# Altium integrated library Linear Technology Power Management LDO Linear Regulators.IntLib: 2339 symbols (part 23 of 131)
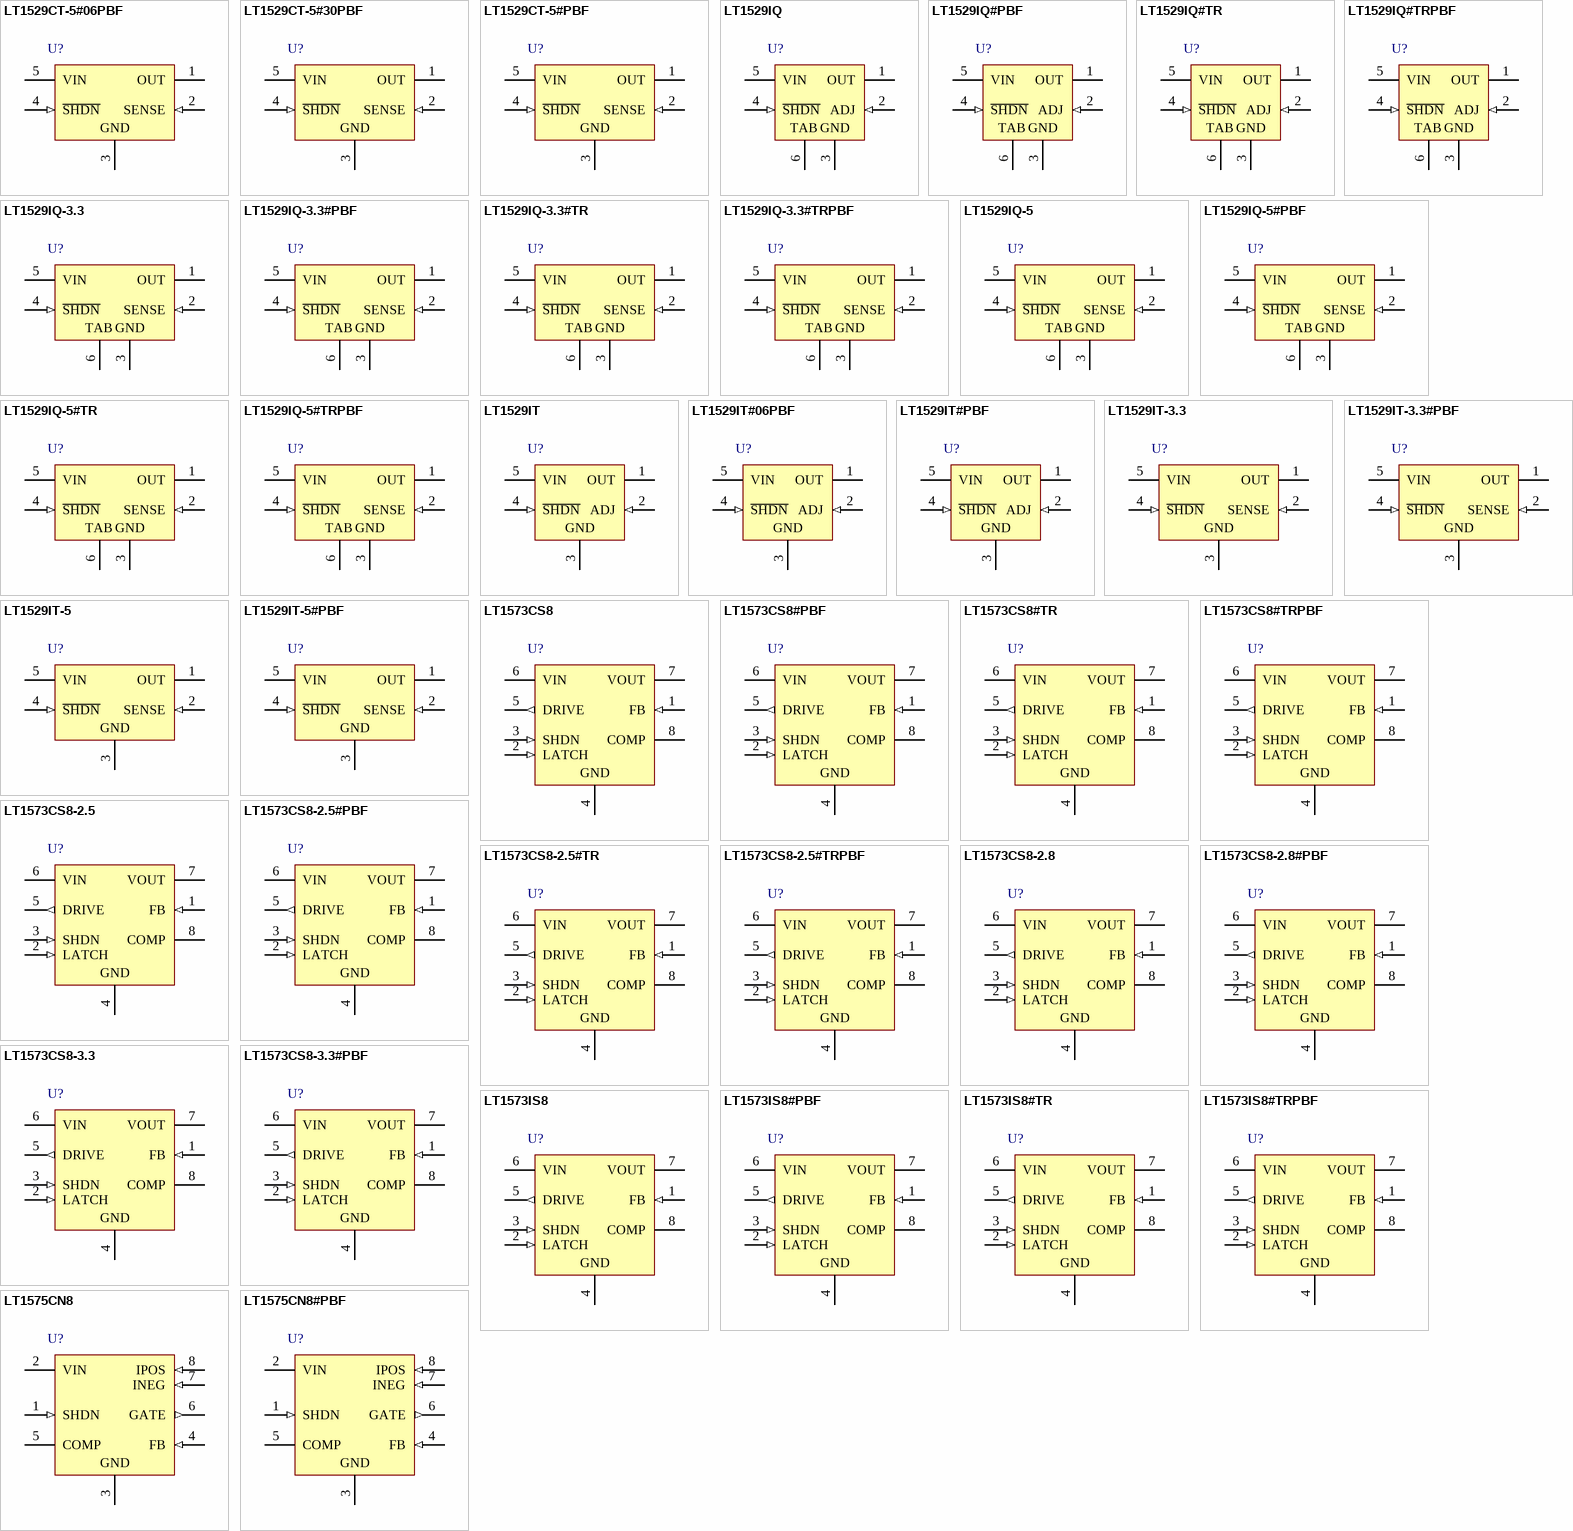
[diagram p91: symbols LT1529CT-5#06PBF to LT1575CN8#PBF]

## LT1529IQ#PBF
designator U?
3 A Low Dropout Regulator with Micropower Quiescent Current and Shutdown, 3.8 to 15 V Vin, Adjustable Vout, 5-pin DPAK (Q-5), -45 to 125 degC, Pb-Free; Manufacturer: Linear Technology; PartNumber: LT1529IQ#PBF; Discrete Pass Element: no; Dropout Voltage(V): 0.6; Iout(mA): 3000; Isupply(mA): 0.05; Number of Outputs: 1; Output Voltage: Adj; PSRR(dB): 62; Shutdown Current(uA): 15; Vin Min(V): 3.8; Vout Max(V): 14; DatasheetVersion: Rev. B; PackageVersion: Rev. F, 09/2011; PackageReference: Q-5; PackageDescription: 5-Pin Plastic DD Pak, Body 10.2235 x 8.89 mm, Pitch 1.702 mm; Supplier 1: Digi-Key; Supplier Part Number 1: LT1529IQ#PBF-ND; Supplier 2: Farnell; Supplier Part Number 2: 2295205; Supplier 3: Newark; Supplier Part Number 3: 57M4832; RoHS: TRUE; Vin Max(V): 15; Vout Min(V): 3.8; Mounting Technology: Surface Mount; ComponentLink1Description: Manufacturer URL; ComponentLink1URL: http://www.linear.com/; ComponentLink2Description: Datasheet; ComponentLink2URL: http://cds.linear.com/docs/en/datasheet/1529fb.pdf; ComponentLink3Description: Package Specification; ComponentLink3URL: http://cds.linear.com/docs/en/packaging/Q%20DD5%2005-08-1461%20Rev%20F.pdf
footprint LT-Q-5_N (DPAK, 5-Leads, Body 10.22x8.89mm, Pitch 1.702mm, IPC Medium Density)
footprint LT-Q-5_L (DPAK, 5-Leads, Body 10.22x8.89mm, Pitch 1.702mm, IPC High Density)
footprint LT-Q-5_M (DPAK, 5-Leads, Body 10.22x8.89mm, Pitch 1.702mm, IPC Low Density)
pins: 1 OUT (power) "OUTPUT Pin. The OUTPUT pin supplies power to the load. A minimum output capacitor of 22uF is required to prevent oscillations. Larger values will be required to optimize transient response for large load current deltas. See (See Datasheet)", 2 ADJ (in) "Adjust Pin. For the LT1529 (adjustable version) the ADJ pin is the input to the error amplifier. This pin is internally clamped to 6V and - 0.6V (one VBE). This pin has a bias current of 150nA which flows into the pin. See (See Datasheet)", 3 GND (power), 4 ~{SHDN} (in) "Shutdown Pin. This pin is used to put the device into shutdown. In shutdown the output of the device is turned off. This pin is active low. The device will be shut down if the S\H\D\N\ pin is actively pulled low. The (See Datasheet)", 5 VIN (power) "Input Pin. Power is supplied to the device through the VIN pin. The VIN pin should be bypassed to ground if the device is more than six inches away from the main input filter capacitor. In general, the output impedance of a (See Datasheet)", 6 TAB (power)

## LT1529IQ#TR
designator U?
3 A Low Dropout Regulator with Micropower Quiescent Current and Shutdown, 3.8 to 15 V Vin, Adjustable Vout, 5-pin DPAK (Q-5), -45 to 125 degC, Tape and Reel; Manufacturer: Linear Technology; PartNumber: LT1529IQ#TR; Discrete Pass Element: no; Dropout Voltage(V): 0.6; Iout(mA): 3000; Isupply(mA): 0.05; Number of Outputs: 1; Output Voltage: Adj; PSRR(dB): 62; Shutdown Current(uA): 15; Vin Min(V): 3.8; Vout Max(V): 14; DatasheetVersion: Rev. B; PackageVersion: Rev. F, 09/2011; PackageReference: Q-5; PackageDescription: 5-Pin Plastic DD Pak, Body 10.2235 x 8.89 mm, Pitch 1.702 mm; Supplier 1: Digi-Key; Supplier Part Number 1: LT1529IQ#TR-ND; Supplier 2: Newark; Supplier Part Number 2: 57M4833; Packing: Tape and Reel; RoHS: FALSE; Vin Max(V): 15; Vout Min(V): 3.8; Mounting Technology: Surface Mount; ComponentLink1Description: Manufacturer URL; ComponentLink1URL: http://www.linear.com/; ComponentLink2Description: Datasheet; ComponentLink2URL: http://cds.linear.com/docs/en/datasheet/1529fb.pdf; ComponentLink3Description: Package Specification; ComponentLink3URL: http://cds.linear.com/docs/en/packaging/Q%20DD5%2005-08-1461%20Rev%20F.pdf
footprint LT-Q-5_N (DPAK, 5-Leads, Body 10.22x8.89mm, Pitch 1.702mm, IPC Medium Density)
footprint LT-Q-5_L (DPAK, 5-Leads, Body 10.22x8.89mm, Pitch 1.702mm, IPC High Density)
footprint LT-Q-5_M (DPAK, 5-Leads, Body 10.22x8.89mm, Pitch 1.702mm, IPC Low Density)
pins: 1 OUT (power) "OUTPUT Pin. The OUTPUT pin supplies power to the load. A minimum output capacitor of 22uF is required to prevent oscillations. Larger values will be required to optimize transient response for large load current deltas. See (See Datasheet)", 2 ADJ (in) "Adjust Pin. For the LT1529 (adjustable version) the ADJ pin is the input to the error amplifier. This pin is internally clamped to 6V and - 0.6V (one VBE). This pin has a bias current of 150nA which flows into the pin. See (See Datasheet)", 3 GND (power), 4 ~{SHDN} (in) "Shutdown Pin. This pin is used to put the device into shutdown. In shutdown the output of the device is turned off. This pin is active low. The device will be shut down if the S\H\D\N\ pin is actively pulled low. The (See Datasheet)", 5 VIN (power) "Input Pin. Power is supplied to the device through the VIN pin. The VIN pin should be bypassed to ground if the device is more than six inches away from the main input filter capacitor. In general, the output impedance of a (See Datasheet)", 6 TAB (power)

## LT1529IQ#TRPBF
designator U?
3 A Low Dropout Regulator with Micropower Quiescent Current and Shutdown, 3.8 to 15 V Vin, Adjustable Vout, 5-pin DPAK (Q-5), -45 to 125 degC, Pb-Free, Tape and Reel; Manufacturer: Linear Technology; PartNumber: LT1529IQ#TRPBF; Discrete Pass Element: no; Dropout Voltage(V): 0.6; Iout(mA): 3000; Isupply(mA): 0.05; Number of Outputs: 1; Output Voltage: Adj; PSRR(dB): 62; Shutdown Current(uA): 15; Vin Min(V): 3.8; Vout Max(V): 14; DatasheetVersion: Rev. B; PackageVersion: Rev. F, 09/2011; PackageReference: Q-5; PackageDescription: 5-Pin Plastic DD Pak, Body 10.2235 x 8.89 mm, Pitch 1.702 mm; Supplier 1: Digi-Key; Supplier Part Number 1: LT1529IQ#TRPBF-ND; Supplier 2: Newark; Supplier Part Number 2: 57M4834; Packing: Tape and Reel; RoHS: TRUE; Vin Max(V): 15; Vout Min(V): 3.8; Mounting Technology: Surface Mount; ComponentLink1Description: Manufacturer URL; ComponentLink1URL: http://www.linear.com/; ComponentLink2Description: Datasheet; ComponentLink2URL: http://cds.linear.com/docs/en/datasheet/1529fb.pdf; ComponentLink3Description: Package Specification; ComponentLink3URL: http://cds.linear.com/docs/en/packaging/Q%20DD5%2005-08-1461%20Rev%20F.pdf
footprint LT-Q-5_N (DPAK, 5-Leads, Body 10.22x8.89mm, Pitch 1.702mm, IPC Medium Density)
footprint LT-Q-5_L (DPAK, 5-Leads, Body 10.22x8.89mm, Pitch 1.702mm, IPC High Density)
footprint LT-Q-5_M (DPAK, 5-Leads, Body 10.22x8.89mm, Pitch 1.702mm, IPC Low Density)
pins: 1 OUT (power) "OUTPUT Pin. The OUTPUT pin supplies power to the load. A minimum output capacitor of 22uF is required to prevent oscillations. Larger values will be required to optimize transient response for large load current deltas. See (See Datasheet)", 2 ADJ (in) "Adjust Pin. For the LT1529 (adjustable version) the ADJ pin is the input to the error amplifier. This pin is internally clamped to 6V and - 0.6V (one VBE). This pin has a bias current of 150nA which flows into the pin. See (See Datasheet)", 3 GND (power), 4 ~{SHDN} (in) "Shutdown Pin. This pin is used to put the device into shutdown. In shutdown the output of the device is turned off. This pin is active low. The device will be shut down if the S\H\D\N\ pin is actively pulled low. The (See Datasheet)", 5 VIN (power) "Input Pin. Power is supplied to the device through the VIN pin. The VIN pin should be bypassed to ground if the device is more than six inches away from the main input filter capacitor. In general, the output impedance of a (See Datasheet)", 6 TAB (power)

## LT1529IQ-3.3
designator U?
3 A Low Dropout Regulator with Micropower Quiescent Current and Shutdown, 3.8 to 15 V Vin, 3.3 V Vout, 5-pin DPAK (Q-5), -45 to 125 degC; Manufacturer: Linear Technology; PartNumber: LT1529IQ-3.3; Discrete Pass Element: no; Dropout Voltage(V): 0.6; Iout(mA): 3000; Isupply(mA): 0.05; Number of Outputs: 1; Output Voltage: 3.3 V; PSRR(dB): 62; Shutdown Current(uA): 15; Vin Min(V): 3.8; DatasheetVersion: Rev. B; PackageVersion: Rev. F, 09/2011; PackageReference: Q-5; PackageDescription: 5-Pin Plastic DD Pak, Body 10.2235 x 8.89 mm, Pitch 1.702 mm; Supplier 1: Digi-Key; Supplier Part Number 1: LT1529IQ-3.3-ND; Supplier 2: Newark; Supplier Part Number 2: 57M4824; RoHS: FALSE; Vin Max(V): 15; Mounting Technology: Surface Mount; ComponentLink1Description: Manufacturer URL; ComponentLink1URL: http://www.linear.com/; ComponentLink2Description: Datasheet; ComponentLink2URL: http://cds.linear.com/docs/en/datasheet/1529fb.pdf; ComponentLink3Description: Package Specification; ComponentLink3URL: http://cds.linear.com/docs/en/packaging/Q%20DD5%2005-08-1461%20Rev%20F.pdf
footprint LT-Q-5_N (DPAK, 5-Leads, Body 10.22x8.89mm, Pitch 1.702mm, IPC Medium Density)
footprint LT-Q-5_L (DPAK, 5-Leads, Body 10.22x8.89mm, Pitch 1.702mm, IPC High Density)
footprint LT-Q-5_M (DPAK, 5-Leads, Body 10.22x8.89mm, Pitch 1.702mm, IPC Low Density)
pins: 1 OUT (power) "OUTPUT Pin.", 2 SENSE (in) "SENSE Pin.", 3 GND (power), 4 ~{SHDN} (in) "Shutdown Pin. This pin is used to put the device into shutdown. In shutdown the output of the device is turned off. This pin is active low. The device will be shut down if the S\H\D\N\ pin is actively pulled low. The (See Datasheet)", 5 VIN (power) "Input Pin. Power is supplied to the device through the VIN pin. The VIN pin should be bypassed to ground if the device is more than six inches away from the main input filter capacitor. In general, the output impedance of a (See Datasheet)", 6 TAB (power)

## LT1529IQ-3.3#PBF
designator U?
3 A Low Dropout Regulator with Micropower Quiescent Current and Shutdown, 3.8 to 15 V Vin, 3.3 V Vout, 5-pin DPAK (Q-5), -45 to 125 degC, Pb-Free; Manufacturer: Linear Technology; PartNumber: LT1529IQ-3.3#PBF; Discrete Pass Element: no; Dropout Voltage(V): 0.6; Iout(mA): 3000; Isupply(mA): 0.05; Number of Outputs: 1; Output Voltage: 3.3 V; PSRR(dB): 62; Shutdown Current(uA): 15; Vin Min(V): 3.8; DatasheetVersion: Rev. B; PackageVersion: Rev. F, 09/2011; PackageReference: Q-5; PackageDescription: 5-Pin Plastic DD Pak, Body 10.2235 x 8.89 mm, Pitch 1.702 mm; Supplier 1: Digi-Key; Supplier Part Number 1: LT1529IQ-3.3#PBF-ND; Supplier 2: Newark; Supplier Part Number 2: 57M4825; RoHS: TRUE; Vin Max(V): 15; Mounting Technology: Surface Mount; ComponentLink1Description: Manufacturer URL; ComponentLink1URL: http://www.linear.com/; ComponentLink2Description: Datasheet; ComponentLink2URL: http://cds.linear.com/docs/en/datasheet/1529fb.pdf; ComponentLink3Description: Package Specification; ComponentLink3URL: http://cds.linear.com/docs/en/packaging/Q%20DD5%2005-08-1461%20Rev%20F.pdf
footprint LT-Q-5_N (DPAK, 5-Leads, Body 10.22x8.89mm, Pitch 1.702mm, IPC Medium Density)
footprint LT-Q-5_L (DPAK, 5-Leads, Body 10.22x8.89mm, Pitch 1.702mm, IPC High Density)
footprint LT-Q-5_M (DPAK, 5-Leads, Body 10.22x8.89mm, Pitch 1.702mm, IPC Low Density)
pins: 1 OUT (power) "OUTPUT Pin.", 2 SENSE (in) "SENSE Pin.", 3 GND (power), 4 ~{SHDN} (in) "Shutdown Pin. This pin is used to put the device into shutdown. In shutdown the output of the device is turned off. This pin is active low. The device will be shut down if the S\H\D\N\ pin is actively pulled low. The (See Datasheet)", 5 VIN (power) "Input Pin. Power is supplied to the device through the VIN pin. The VIN pin should be bypassed to ground if the device is more than six inches away from the main input filter capacitor. In general, the output impedance of a (See Datasheet)", 6 TAB (power)

## LT1529IQ-3.3#TR
designator U?
3 A Low Dropout Regulator with Micropower Quiescent Current and Shutdown, 3.8 to 15 V Vin, 3.3 V Vout, 5-pin DPAK (Q-5), -45 to 125 degC, Tape and Reel; Manufacturer: Linear Technology; PartNumber: LT1529IQ-3.3#TR; Discrete Pass Element: no; Dropout Voltage(V): 0.6; Iout(mA): 3000; Isupply(mA): 0.05; Number of Outputs: 1; Output Voltage: 3.3 V; PSRR(dB): 62; Shutdown Current(uA): 15; Vin Min(V): 3.8; DatasheetVersion: Rev. B; PackageVersion: Rev. F, 09/2011; PackageReference: Q-5; PackageDescription: 5-Pin Plastic DD Pak, Body 10.2235 x 8.89 mm, Pitch 1.702 mm; Supplier 1: Digi-Key; Supplier Part Number 1: LT1529IQ-3.3#TR-ND; Supplier 2: Newark; Supplier Part Number 2: 57M4826; Packing: Tape and Reel; RoHS: FALSE; Vin Max(V): 15; Mounting Technology: Surface Mount; ComponentLink1Description: Manufacturer URL; ComponentLink1URL: http://www.linear.com/; ComponentLink2Description: Datasheet; ComponentLink2URL: http://cds.linear.com/docs/en/datasheet/1529fb.pdf; ComponentLink3Description: Package Specification; ComponentLink3URL: http://cds.linear.com/docs/en/packaging/Q%20DD5%2005-08-1461%20Rev%20F.pdf
footprint LT-Q-5_N (DPAK, 5-Leads, Body 10.22x8.89mm, Pitch 1.702mm, IPC Medium Density)
footprint LT-Q-5_L (DPAK, 5-Leads, Body 10.22x8.89mm, Pitch 1.702mm, IPC High Density)
footprint LT-Q-5_M (DPAK, 5-Leads, Body 10.22x8.89mm, Pitch 1.702mm, IPC Low Density)
pins: 1 OUT (power) "OUTPUT Pin.", 2 SENSE (in) "SENSE Pin.", 3 GND (power), 4 ~{SHDN} (in) "Shutdown Pin. This pin is used to put the device into shutdown. In shutdown the output of the device is turned off. This pin is active low. The device will be shut down if the S\H\D\N\ pin is actively pulled low. The (See Datasheet)", 5 VIN (power) "Input Pin. Power is supplied to the device through the VIN pin. The VIN pin should be bypassed to ground if the device is more than six inches away from the main input filter capacitor. In general, the output impedance of a (See Datasheet)", 6 TAB (power)

## LT1529IQ-3.3#TRPBF
designator U?
3 A Low Dropout Regulator with Micropower Quiescent Current and Shutdown, 3.8 to 15 V Vin, 3.3 V Vout, 5-pin DPAK (Q-5), -45 to 125 degC, Pb-Free, Tape and Reel; Manufacturer: Linear Technology; PartNumber: LT1529IQ-3.3#TRPBF; Discrete Pass Element: no; Dropout Voltage(V): 0.6; Iout(mA): 3000; Isupply(mA): 0.05; Number of Outputs: 1; Output Voltage: 3.3 V; PSRR(dB): 62; Shutdown Current(uA): 15; Vin Min(V): 3.8; DatasheetVersion: Rev. B; PackageVersion: Rev. F, 09/2011; PackageReference: Q-5; PackageDescription: 5-Pin Plastic DD Pak, Body 10.2235 x 8.89 mm, Pitch 1.702 mm; Supplier 1: Digi-Key; Supplier Part Number 1: LT1529IQ-3.3#TRPBF-ND; Supplier 2: Newark; Supplier Part Number 2: 57M4827; Packing: Tape and Reel; RoHS: TRUE; Vin Max(V): 15; Mounting Technology: Surface Mount; ComponentLink1Description: Manufacturer URL; ComponentLink1URL: http://www.linear.com/; ComponentLink2Description: Datasheet; ComponentLink2URL: http://cds.linear.com/docs/en/datasheet/1529fb.pdf; ComponentLink3Description: Package Specification; ComponentLink3URL: http://cds.linear.com/docs/en/packaging/Q%20DD5%2005-08-1461%20Rev%20F.pdf
footprint LT-Q-5_N (DPAK, 5-Leads, Body 10.22x8.89mm, Pitch 1.702mm, IPC Medium Density)
footprint LT-Q-5_L (DPAK, 5-Leads, Body 10.22x8.89mm, Pitch 1.702mm, IPC High Density)
footprint LT-Q-5_M (DPAK, 5-Leads, Body 10.22x8.89mm, Pitch 1.702mm, IPC Low Density)
pins: 1 OUT (power) "OUTPUT Pin.", 2 SENSE (in) "SENSE Pin.", 3 GND (power), 4 ~{SHDN} (in) "Shutdown Pin. This pin is used to put the device into shutdown. In shutdown the output of the device is turned off. This pin is active low. The device will be shut down if the S\H\D\N\ pin is actively pulled low. The (See Datasheet)", 5 VIN (power) "Input Pin. Power is supplied to the device through the VIN pin. The VIN pin should be bypassed to ground if the device is more than six inches away from the main input filter capacitor. In general, the output impedance of a (See Datasheet)", 6 TAB (power)

## LT1529IQ-5
designator U?
3 A Low Dropout Regulator with Micropower Quiescent Current and Shutdown, 3.8 to 15 V Vin, 5 V Vout, 5-pin DPAK (Q-5), -45 to 125 degC; Manufacturer: Linear Technology; PartNumber: LT1529IQ-5; Discrete Pass Element: no; Dropout Voltage(V): 0.6; Iout(mA): 3000; Isupply(mA): 0.05; Number of Outputs: 1; Output Voltage: 5 V; PSRR(dB): 62; Shutdown Current(uA): 15; Vin Min(V): 3.8; DatasheetVersion: Rev. B; PackageVersion: Rev. F, 09/2011; PackageReference: Q-5; PackageDescription: 5-Pin Plastic DD Pak, Body 10.2235 x 8.89 mm, Pitch 1.702 mm; Supplier 1: Digi-Key; Supplier Part Number 1: LT1529IQ-5-ND; Supplier 2: Newark; Supplier Part Number 2: 57M4828; RoHS: FALSE; Vin Max(V): 15; Mounting Technology: Surface Mount; ComponentLink1Description: Manufacturer URL; ComponentLink1URL: http://www.linear.com/; ComponentLink2Description: Datasheet; ComponentLink2URL: http://cds.linear.com/docs/en/datasheet/1529fb.pdf; ComponentLink3Description: Package Specification; ComponentLink3URL: http://cds.linear.com/docs/en/packaging/Q%20DD5%2005-08-1461%20Rev%20F.pdf
footprint LT-Q-5_N (DPAK, 5-Leads, Body 10.22x8.89mm, Pitch 1.702mm, IPC Medium Density)
footprint LT-Q-5_L (DPAK, 5-Leads, Body 10.22x8.89mm, Pitch 1.702mm, IPC High Density)
footprint LT-Q-5_M (DPAK, 5-Leads, Body 10.22x8.89mm, Pitch 1.702mm, IPC Low Density)
pins: 1 OUT (power) "OUTPUT Pin.", 2 SENSE (in) "SENSE Pin.", 3 GND (power), 4 ~{SHDN} (in) "Shutdown Pin. This pin is used to put the device into shutdown. In shutdown the output of the device is turned off. This pin is active low. The device will be shut down if the S\H\D\N\ pin is actively pulled low. The (See Datasheet)", 5 VIN (power) "Input Pin. Power is supplied to the device through the VIN pin. The VIN pin should be bypassed to ground if the device is more than six inches away from the main input filter capacitor. In general, the output impedance of a (See Datasheet)", 6 TAB (power)

## LT1529IQ-5#PBF
designator U?
3 A Low Dropout Regulator with Micropower Quiescent Current and Shutdown, 3.8 to 15 V Vin, 5 V Vout, 5-pin DPAK (Q-5), -45 to 125 degC, Pb-Free; Manufacturer: Linear Technology; PartNumber: LT1529IQ-5#PBF; Discrete Pass Element: no; Dropout Voltage(V): 0.6; Iout(mA): 3000; Isupply(mA): 0.05; Number of Outputs: 1; Output Voltage: 5 V; PSRR(dB): 62; Shutdown Current(uA): 15; Vin Min(V): 3.8; DatasheetVersion: Rev. B; PackageVersion: Rev. F, 09/2011; PackageReference: Q-5; PackageDescription: 5-Pin Plastic DD Pak, Body 10.2235 x 8.89 mm, Pitch 1.702 mm; Supplier 1: Digi-Key; Supplier Part Number 1: LT1529IQ-5#PBF-ND; Supplier 2: Farnell; Supplier Part Number 2: 2252780; Supplier 3: Newark; Supplier Part Number 3: 57M4829; RoHS: TRUE; Vin Max(V): 15; Mounting Technology: Surface Mount; ComponentLink1Description: Manufacturer URL; ComponentLink1URL: http://www.linear.com/; ComponentLink2Description: Datasheet; ComponentLink2URL: http://cds.linear.com/docs/en/datasheet/1529fb.pdf; ComponentLink3Description: Package Specification; ComponentLink3URL: http://cds.linear.com/docs/en/packaging/Q%20DD5%2005-08-1461%20Rev%20F.pdf
footprint LT-Q-5_N (DPAK, 5-Leads, Body 10.22x8.89mm, Pitch 1.702mm, IPC Medium Density)
footprint LT-Q-5_L (DPAK, 5-Leads, Body 10.22x8.89mm, Pitch 1.702mm, IPC High Density)
footprint LT-Q-5_M (DPAK, 5-Leads, Body 10.22x8.89mm, Pitch 1.702mm, IPC Low Density)
pins: 1 OUT (power) "OUTPUT Pin.", 2 SENSE (in) "SENSE Pin.", 3 GND (power), 4 ~{SHDN} (in) "Shutdown Pin. This pin is used to put the device into shutdown. In shutdown the output of the device is turned off. This pin is active low. The device will be shut down if the S\H\D\N\ pin is actively pulled low. The (See Datasheet)", 5 VIN (power) "Input Pin. Power is supplied to the device through the VIN pin. The VIN pin should be bypassed to ground if the device is more than six inches away from the main input filter capacitor. In general, the output impedance of a (See Datasheet)", 6 TAB (power)

## LT1529IQ-5#TR
designator U?
3 A Low Dropout Regulator with Micropower Quiescent Current and Shutdown, 3.8 to 15 V Vin, 5 V Vout, 5-pin DPAK (Q-5), -45 to 125 degC, Tape and Reel; Manufacturer: Linear Technology; PartNumber: LT1529IQ-5#TR; Discrete Pass Element: no; Dropout Voltage(V): 0.6; Iout(mA): 3000; Isupply(mA): 0.05; Number of Outputs: 1; Output Voltage: 5 V; PSRR(dB): 62; Shutdown Current(uA): 15; Vin Min(V): 3.8; DatasheetVersion: Rev. B; PackageVersion: Rev. F, 09/2011; PackageReference: Q-5; PackageDescription: 5-Pin Plastic DD Pak, Body 10.2235 x 8.89 mm, Pitch 1.702 mm; Supplier 1: Digi-Key; Supplier Part Number 1: LT1529IQ-5#TR-ND; Packing: Tape and Reel; RoHS: FALSE; Vin Max(V): 15; Mounting Technology: Surface Mount; ComponentLink1Description: Manufacturer URL; ComponentLink1URL: http://www.linear.com/; ComponentLink2Description: Datasheet; ComponentLink2URL: http://cds.linear.com/docs/en/datasheet/1529fb.pdf; ComponentLink3Description: Package Specification; ComponentLink3URL: http://cds.linear.com/docs/en/packaging/Q%20DD5%2005-08-1461%20Rev%20F.pdf
footprint LT-Q-5_N (DPAK, 5-Leads, Body 10.22x8.89mm, Pitch 1.702mm, IPC Medium Density)
footprint LT-Q-5_L (DPAK, 5-Leads, Body 10.22x8.89mm, Pitch 1.702mm, IPC High Density)
footprint LT-Q-5_M (DPAK, 5-Leads, Body 10.22x8.89mm, Pitch 1.702mm, IPC Low Density)
pins: 1 OUT (power) "OUTPUT Pin.", 2 SENSE (in) "SENSE Pin.", 3 GND (power), 4 ~{SHDN} (in) "Shutdown Pin. This pin is used to put the device into shutdown. In shutdown the output of the device is turned off. This pin is active low. The device will be shut down if the S\H\D\N\ pin is actively pulled low. The (See Datasheet)", 5 VIN (power) "Input Pin. Power is supplied to the device through the VIN pin. The VIN pin should be bypassed to ground if the device is more than six inches away from the main input filter capacitor. In general, the output impedance of a (See Datasheet)", 6 TAB (power)

## LT1529IQ-5#TRPBF
designator U?
3 A Low Dropout Regulator with Micropower Quiescent Current and Shutdown, 3.8 to 15 V Vin, 5 V Vout, 5-pin DPAK (Q-5), -45 to 125 degC, Pb-Free, Tape and Reel; Manufacturer: Linear Technology; PartNumber: LT1529IQ-5#TRPBF; Discrete Pass Element: no; Dropout Voltage(V): 0.6; Iout(mA): 3000; Isupply(mA): 0.05; Number of Outputs: 1; Output Voltage: 5 V; PSRR(dB): 62; Shutdown Current(uA): 15; Vin Min(V): 3.8; DatasheetVersion: Rev. B; PackageVersion: Rev. F, 09/2011; PackageReference: Q-5; PackageDescription: 5-Pin Plastic DD Pak, Body 10.2235 x 8.89 mm, Pitch 1.702 mm; Supplier 1: Digi-Key; Supplier Part Number 1: LT1529IQ-5#TRPBF-ND; Supplier 2: Newark; Supplier Part Number 2: 57M4831; Packing: Tape and Reel; RoHS: TRUE; Vin Max(V): 15; Mounting Technology: Surface Mount; ComponentLink1Description: Manufacturer URL; ComponentLink1URL: http://www.linear.com/; ComponentLink2Description: Datasheet; ComponentLink2URL: http://cds.linear.com/docs/en/datasheet/1529fb.pdf; ComponentLink3Description: Package Specification; ComponentLink3URL: http://cds.linear.com/docs/en/packaging/Q%20DD5%2005-08-1461%20Rev%20F.pdf
footprint LT-Q-5_N (DPAK, 5-Leads, Body 10.22x8.89mm, Pitch 1.702mm, IPC Medium Density)
footprint LT-Q-5_L (DPAK, 5-Leads, Body 10.22x8.89mm, Pitch 1.702mm, IPC High Density)
footprint LT-Q-5_M (DPAK, 5-Leads, Body 10.22x8.89mm, Pitch 1.702mm, IPC Low Density)
pins: 1 OUT (power) "OUTPUT Pin.", 2 SENSE (in) "SENSE Pin.", 3 GND (power), 4 ~{SHDN} (in) "Shutdown Pin. This pin is used to put the device into shutdown. In shutdown the output of the device is turned off. This pin is active low. The device will be shut down if the S\H\D\N\ pin is actively pulled low. The (See Datasheet)", 5 VIN (power) "Input Pin. Power is supplied to the device through the VIN pin. The VIN pin should be bypassed to ground if the device is more than six inches away from the main input filter capacitor. In general, the output impedance of a (See Datasheet)", 6 TAB (power)

## LT1529IT
designator U?
3 A Low Dropout Regulator with Micropower Quiescent Current and Shutdown, 3.8 to 15 V Vin, Adjustable Vout, 5-pin FM (T-5), -45 to 125 degC; Manufacturer: Linear Technology; PartNumber: LT1529IT; Discrete Pass Element: no; Dropout Voltage(V): 0.6; Iout(mA): 3000; Isupply(mA): 0.05; Number of Outputs: 1; Output Voltage: Adj; PSRR(dB): 62; Shutdown Current(uA): 15; Vin Min(V): 3.8; Vout Max(V): 14; DatasheetVersion: Rev. B; PackageVersion: Aug-10; PackageReference: T-5; PackageDescription: 5-Pin Plastic TO-220 (Standard), Body 10.224 x 8.89 mm, Pitch 1.7 mm; Supplier 1: Digi-Key; Supplier Part Number 1: LT1529IT-ND; RoHS: FALSE; Vin Max(V): 15; Vout Min(V): 3.8; Mounting Technology: Through Hole; ComponentLink1Description: Manufacturer URL; ComponentLink1URL: http://www.linear.com/; ComponentLink2Description: Datasheet; ComponentLink2URL: http://cds.linear.com/docs/en/datasheet/1529fb.pdf; ComponentLink3Description: Package Specification; ComponentLink3URL: http://cds.linear.com/docs/en/packaging/TO-220_5_05-08-1421.pdf
footprint LT-T-5-S (FM, 5-Leads, Body 10.2235x4.3815mm, Pitch 1.7mm)
pins: 1 OUT (power), 2 ADJ (in), 3 GND (power), 4 ~{SHDN} (in), 5 VIN (power)

## LT1529IT#06PBF
designator U?
3 A Low Dropout Regulator with Micropower Quiescent Current and Shutdown, 3.8 to 15 V Vin, Adjustable Vout, 5-pin FM (T-5), -45 to 125 degC, Pb-Free; Manufacturer: Linear Technology; PartNumber: LT1529IT#06PBF; Discrete Pass Element: no; Dropout Voltage(V): 0.6; Iout(mA): 3000; Isupply(mA): 0.05; Number of Outputs: 1; Output Voltage: Adj; PSRR(dB): 62; Shutdown Current(uA): 15; Vin Min(V): 3.8; Vout Max(V): 14; DatasheetVersion: Rev. B; PackageVersion: Aug-10; PackageReference: T-5; PackageDescription: 5-Pin Plastic TO-220 (Standard), Body 10.224 x 8.89 mm, Pitch 1.7 mm; Supplier 1: Digi-Key; Supplier Part Number 1: LT1529IT#06PBF-ND; Supplier 2: Newark; Supplier Part Number 2: 27W9522; RoHS: TRUE; Vin Max(V): 15; Vout Min(V): 3.8; Mounting Technology: Through Hole; ComponentLink1Description: Manufacturer URL; ComponentLink1URL: http://www.linear.com/; ComponentLink2Description: Datasheet; ComponentLink2URL: http://cds.linear.com/docs/en/datasheet/1529fb.pdf; ComponentLink3Description: Package Specification; ComponentLink3URL: http://cds.linear.com/docs/en/packaging/TO-220_5_05-08-1421.pdf
footprint LT-T-5-S (FM, 5-Leads, Body 10.2235x4.3815mm, Pitch 1.7mm)
pins: 1 OUT (power), 2 ADJ (in), 3 GND (power), 4 ~{SHDN} (in), 5 VIN (power)

## LT1529IT#PBF
designator U?
3 A Low Dropout Regulator with Micropower Quiescent Current and Shutdown, 3.8 to 15 V Vin, Adjustable Vout, 5-pin FM (T-5), -45 to 125 degC, Pb-Free; Manufacturer: Linear Technology; PartNumber: LT1529IT#PBF; Discrete Pass Element: no; Dropout Voltage(V): 0.6; Iout(mA): 3000; Isupply(mA): 0.05; Number of Outputs: 1; Output Voltage: Adj; PSRR(dB): 62; Shutdown Current(uA): 15; Vin Min(V): 3.8; Vout Max(V): 14; DatasheetVersion: Rev. B; PackageVersion: Aug-10; PackageReference: T-5; PackageDescription: 5-Pin Plastic TO-220 (Standard), Body 10.224 x 8.89 mm, Pitch 1.7 mm; Supplier 1: Digi-Key; Supplier Part Number 1: LT1529IT#PBF-ND; RoHS: TRUE; Vin Max(V): 15; Vout Min(V): 3.8; Mounting Technology: Through Hole; ComponentLink1Description: Manufacturer URL; ComponentLink1URL: http://www.linear.com/; ComponentLink2Description: Datasheet; ComponentLink2URL: http://cds.linear.com/docs/en/datasheet/1529fb.pdf; ComponentLink3Description: Package Specification; ComponentLink3URL: http://cds.linear.com/docs/en/packaging/TO-220_5_05-08-1421.pdf
footprint LT-T-5-S (FM, 5-Leads, Body 10.2235x4.3815mm, Pitch 1.7mm)
pins: 1 OUT (power), 2 ADJ (in), 3 GND (power), 4 ~{SHDN} (in), 5 VIN (power)

## LT1529IT-3.3
designator U?
3 A Low Dropout Regulator with Micropower Quiescent Current and Shutdown, 3.8 to 15 V Vin, 3.3 V Vout, 5-pin FM (T-5), -45 to 125 degC; Manufacturer: Linear Technology; PartNumber: LT1529IT-3.3; Discrete Pass Element: no; Dropout Voltage(V): 0.6; Iout(mA): 3000; Isupply(mA): 0.05; Number of Outputs: 1; Output Voltage: 3.3 V; PSRR(dB): 62; Shutdown Current(uA): 15; Vin Min(V): 3.8; DatasheetVersion: Rev. B; PackageVersion: Aug-10; PackageReference: T-5; PackageDescription: 5-Pin Plastic TO-220 (Standard), Body 10.224 x 8.89 mm, Pitch 1.7 mm; Supplier 1: Digi-Key; Supplier Part Number 1: LT1529IT-3.3-ND; RoHS: FALSE; Vin Max(V): 15; Mounting Technology: Through Hole; ComponentLink1Description: Manufacturer URL; ComponentLink1URL: http://www.linear.com/; ComponentLink2Description: Datasheet; ComponentLink2URL: http://cds.linear.com/docs/en/datasheet/1529fb.pdf; ComponentLink3Description: Package Specification; ComponentLink3URL: http://cds.linear.com/docs/en/packaging/TO-220_5_05-08-1421.pdf
footprint LT-T-5-S (FM, 5-Leads, Body 10.2235x4.3815mm, Pitch 1.7mm)
pins: 1 OUT (power) "OUTPUT Pin.", 2 SENSE (in), 3 GND (power), 4 ~{SHDN} (in) "Shutdown Pin.", 5 VIN (power) "Input Pin."

## LT1529IT-3.3#PBF
designator U?
3 A Low Dropout Regulator with Micropower Quiescent Current and Shutdown, 3.8 to 15 V Vin, 3.3 V Vout, 5-pin FM (T-5), -45 to 125 degC, Pb-Free; Manufacturer: Linear Technology; PartNumber: LT1529IT-3.3#PBF; Discrete Pass Element: no; Dropout Voltage(V): 0.6; Iout(mA): 3000; Isupply(mA): 0.05; Number of Outputs: 1; Output Voltage: 3.3 V; PSRR(dB): 62; Shutdown Current(uA): 15; Vin Min(V): 3.8; DatasheetVersion: Rev. B; PackageVersion: Aug-10; PackageReference: T-5; PackageDescription: 5-Pin Plastic TO-220 (Standard), Body 10.224 x 8.89 mm, Pitch 1.7 mm; Supplier 1: Digi-Key; Supplier Part Number 1: LT1529IT-3.3#PBF-ND; Supplier 2: Newark; Supplier Part Number 2: 57M4837; RoHS: TRUE; Vin Max(V): 15; Mounting Technology: Through Hole; ComponentLink1Description: Manufacturer URL; ComponentLink1URL: http://www.linear.com/; ComponentLink2Description: Datasheet; ComponentLink2URL: http://cds.linear.com/docs/en/datasheet/1529fb.pdf; ComponentLink3Description: Package Specification; ComponentLink3URL: http://cds.linear.com/docs/en/packaging/TO-220_5_05-08-1421.pdf
footprint LT-T-5-S (FM, 5-Leads, Body 10.2235x4.3815mm, Pitch 1.7mm)
pins: 1 OUT (power) "OUTPUT Pin.", 2 SENSE (in), 3 GND (power), 4 ~{SHDN} (in) "Shutdown Pin.", 5 VIN (power) "Input Pin."

## LT1529IT-5
designator U?
3 A Low Dropout Regulator with Micropower Quiescent Current and Shutdown, 3.8 to 15 V Vin, 5 V Vout, 5-pin FM (T-5), -45 to 125 degC; Manufacturer: Linear Technology; PartNumber: LT1529IT-5; Discrete Pass Element: no; Dropout Voltage(V): 0.6; Iout(mA): 3000; Isupply(mA): 0.05; Number of Outputs: 1; Output Voltage: 5 V; PSRR(dB): 62; Shutdown Current(uA): 15; Vin Min(V): 3.8; DatasheetVersion: Rev. B; PackageVersion: Aug-10; PackageReference: T-5; PackageDescription: 5-Pin Plastic TO-220 (Standard), Body 10.224 x 8.89 mm, Pitch 1.7 mm; Supplier 1: Digi-Key; Supplier Part Number 1: LT1529IT-5-ND; RoHS: FALSE; Vin Max(V): 15; Mounting Technology: Through Hole; ComponentLink1Description: Manufacturer URL; ComponentLink1URL: http://www.linear.com/; ComponentLink2Description: Datasheet; ComponentLink2URL: http://cds.linear.com/docs/en/datasheet/1529fb.pdf; ComponentLink3Description: Package Specification; ComponentLink3URL: http://cds.linear.com/docs/en/packaging/TO-220_5_05-08-1421.pdf
footprint LT-T-5-S (FM, 5-Leads, Body 10.2235x4.3815mm, Pitch 1.7mm)
pins: 1 OUT (power) "OUTPUT Pin.", 2 SENSE (in), 3 GND (power), 4 ~{SHDN} (in) "Shutdown Pin.", 5 VIN (power) "Input Pin."

## LT1529IT-5#PBF
designator U?
3 A Low Dropout Regulator with Micropower Quiescent Current and Shutdown, 3.8 to 15 V Vin, 5 V Vout, 5-pin FM (T-5), -45 to 125 degC, Pb-Free; Manufacturer: Linear Technology; PartNumber: LT1529IT-5#PBF; Discrete Pass Element: no; Dropout Voltage(V): 0.6; Iout(mA): 3000; Isupply(mA): 0.05; Number of Outputs: 1; Output Voltage: 5 V; PSRR(dB): 62; Shutdown Current(uA): 15; Vin Min(V): 3.8; DatasheetVersion: Rev. B; PackageVersion: Aug-10; PackageReference: T-5; PackageDescription: 5-Pin Plastic TO-220 (Standard), Body 10.224 x 8.89 mm, Pitch 1.7 mm; Supplier 1: Digi-Key; Supplier Part Number 1: LT1529IT-5#PBF-ND; RoHS: TRUE; Vin Max(V): 15; Mounting Technology: Through Hole; ComponentLink1Description: Manufacturer URL; ComponentLink1URL: http://www.linear.com/; ComponentLink2Description: Datasheet; ComponentLink2URL: http://cds.linear.com/docs/en/datasheet/1529fb.pdf; ComponentLink3Description: Package Specification; ComponentLink3URL: http://cds.linear.com/docs/en/packaging/TO-220_5_05-08-1421.pdf
footprint LT-T-5-S (FM, 5-Leads, Body 10.2235x4.3815mm, Pitch 1.7mm)
pins: 1 OUT (power) "OUTPUT Pin.", 2 SENSE (in), 3 GND (power), 4 ~{SHDN} (in) "Shutdown Pin.", 5 VIN (power) "Input Pin."

## LT1573CS8
designator U?
Fast Transient Response, Requires External Transistor, 2.8 to 10 V Vin, 1.27 to 6.8 V Vout, 8-pin SOIC (S8-8), 0 to 125 degC; Manufacturer: Linear Technology; PartNumber: LT1573CS8; Discrete Pass Element: yes; Iout(mA): 5000; Isupply(mA): 1.7; Number of Outputs: 1; Output Voltage: Adj; Shutdown Current(uA): 200; Vin Max(V): 10; Vin Min(V): 2.8; Vout Max(V): 6.8; Vout Min(V): 1.27; DatasheetVersion: Rev. A; PackageVersion: Rev. G, 03/2012; PackageReference: S8-8; PackageDescription: 8-Pin Plastic Small Outline (Narrow .150 Inch), Body 4.9 x 3.9 mm, Pitch 1.27 mm; Supplier 1: Digi-Key; Supplier Part Number 1: LT1573CS8-ND; RoHS: FALSE; Mounting Technology: Surface Mount; ComponentLink1Description: Manufacturer URL; ComponentLink1URL: http://www.linear.com/; ComponentLink2Description: Datasheet; ComponentLink2URL: http://cds.linear.com/docs/en/datasheet/1573fa.pdf; ComponentLink3Description: Package Specification; ComponentLink3URL: http://cds.linear.com/docs/en/packaging/05081610_G_SO8.pdf
footprint LT-S8-8_N (SOIC, 8-Leads, Body 4.9x3.9mm, Pitch 1.27mm, IPC Medium Density)
footprint LT-S8-8_L (SOIC, 8-Leads, Body 4.9x3.9mm, Pitch 1.27mm, IPC High Density)
footprint LT-S8-8_M (SOIC, 8-Leads, Body 4.9x3.9mm, Pitch 1.27mm, IPC Low Density)
pins: 1 FB (in) "The feedback pin is the inverting input of the error amplifier. The noninverting input of the error amplifier is internally connected to a 1.265V reference. The error amplifier will servo the drive to the output transistor, (See Datasheet)", 2 LATCH (in) "The LT1573 provides overcurrent protection with a timed latch-off circuit. The latch-off time out is triggered when the DRIVE pin is pulled below the saturation voltage of the drive transistor. The saturation voltage is a (See Datasheet)", 3 SHDN (in) "The SHDN pin has two functions. It can be used to turn off the output voltage by disabling the drive to the output transistor. It can also be used to reset the current limit latch. The shutdown/reset functions are activated (See Datasheet)", 4 GND (power) "Circuit Ground.", 5 DRIVE (out) "The DRIVE pin is connected to the collector of the main drive transistor of the LT1573. This drive transistor sinks the base current of the external PNP output transistor. A resistor is normally inserted between the base of (See Datasheet)", 6 VIN (power) "This pin provides power to all internal circuitry of the LT1573 including bias, start-up, thermal limit, error amplifier and all overcurrent latch circuitry.", 7 VOUT (power) "The VOUT pin is the input to comparator C1 shown in Block Diagram. This pin is normally connected to the output. The comparator C1 is used to disable the overcurrent latch during start-up when the output transistor is (See Datasheet)", 8 COMP "A compensation network is inserted between the VOUT and COMP pins to obtain optimal transient response. Under normal condition, the DC voltage of the COMP pin sits at one VBE above ground."

## LT1573CS8#PBF
designator U?
Fast Transient Response, Requires External Transistor, 2.8 to 10 V Vin, 1.27 to 6.8 V Vout, 8-pin SOIC (S8-8), 0 to 125 degC, Pb-Free; Manufacturer: Linear Technology; PartNumber: LT1573CS8#PBF; Discrete Pass Element: yes; Iout(mA): 5000; Isupply(mA): 1.7; Number of Outputs: 1; Output Voltage: Adj; Shutdown Current(uA): 200; Vin Max(V): 10; Vin Min(V): 2.8; Vout Max(V): 6.8; Vout Min(V): 1.27; DatasheetVersion: Rev. A; PackageVersion: Rev. G, 03/2012; PackageReference: S8-8; PackageDescription: 8-Pin Plastic Small Outline (Narrow .150 Inch), Body 4.9 x 3.9 mm, Pitch 1.27 mm; Supplier 1: Digi-Key; Supplier Part Number 1: LT1573CS8#PBF-ND; Supplier 2: Newark; Supplier Part Number 2: 57M4902; RoHS: TRUE; Mounting Technology: Surface Mount; ComponentLink1Description: Manufacturer URL; ComponentLink1URL: http://www.linear.com/; ComponentLink2Description: Datasheet; ComponentLink2URL: http://cds.linear.com/docs/en/datasheet/1573fa.pdf; ComponentLink3Description: Package Specification; ComponentLink3URL: http://cds.linear.com/docs/en/packaging/05081610_G_SO8.pdf
footprint LT-S8-8_N (SOIC, 8-Leads, Body 4.9x3.9mm, Pitch 1.27mm, IPC Medium Density)
footprint LT-S8-8_L (SOIC, 8-Leads, Body 4.9x3.9mm, Pitch 1.27mm, IPC High Density)
footprint LT-S8-8_M (SOIC, 8-Leads, Body 4.9x3.9mm, Pitch 1.27mm, IPC Low Density)
pins: 1 FB (in) "The feedback pin is the inverting input of the error amplifier. The noninverting input of the error amplifier is internally connected to a 1.265V reference. The error amplifier will servo the drive to the output transistor, (See Datasheet)", 2 LATCH (in) "The LT1573 provides overcurrent protection with a timed latch-off circuit. The latch-off time out is triggered when the DRIVE pin is pulled below the saturation voltage of the drive transistor. The saturation voltage is a (See Datasheet)", 3 SHDN (in) "The SHDN pin has two functions. It can be used to turn off the output voltage by disabling the drive to the output transistor. It can also be used to reset the current limit latch. The shutdown/reset functions are activated (See Datasheet)", 4 GND (power) "Circuit Ground.", 5 DRIVE (out) "The DRIVE pin is connected to the collector of the main drive transistor of the LT1573. This drive transistor sinks the base current of the external PNP output transistor. A resistor is normally inserted between the base of (See Datasheet)", 6 VIN (power) "This pin provides power to all internal circuitry of the LT1573 including bias, start-up, thermal limit, error amplifier and all overcurrent latch circuitry.", 7 VOUT (power) "The VOUT pin is the input to comparator C1 shown in Block Diagram. This pin is normally connected to the output. The comparator C1 is used to disable the overcurrent latch during start-up when the output transistor is (See Datasheet)", 8 COMP "A compensation network is inserted between the VOUT and COMP pins to obtain optimal transient response. Under normal condition, the DC voltage of the COMP pin sits at one VBE above ground."

## LT1573CS8#TR
designator U?
Fast Transient Response, Requires External Transistor, 2.8 to 10 V Vin, 1.27 to 6.8 V Vout, 8-pin SOIC (S8-8), 0 to 125 degC, Tape and Reel; Manufacturer: Linear Technology; PartNumber: LT1573CS8#TR; Discrete Pass Element: yes; Iout(mA): 5000; Isupply(mA): 1.7; Number of Outputs: 1; Output Voltage: Adj; Shutdown Current(uA): 200; Vin Max(V): 10; Vin Min(V): 2.8; Vout Max(V): 6.8; Vout Min(V): 1.27; DatasheetVersion: Rev. A; PackageVersion: Rev. G, 03/2012; PackageReference: S8-8; PackageDescription: 8-Pin Plastic Small Outline (Narrow .150 Inch), Body 4.9 x 3.9 mm, Pitch 1.27 mm; Supplier 1: Digi-Key; Supplier Part Number 1: LT1573CS8#TR-ND; Packing: Tape and Reel; RoHS: FALSE; Mounting Technology: Surface Mount; ComponentLink1Description: Manufacturer URL; ComponentLink1URL: http://www.linear.com/; ComponentLink2Description: Datasheet; ComponentLink2URL: http://cds.linear.com/docs/en/datasheet/1573fa.pdf; ComponentLink3Description: Package Specification; ComponentLink3URL: http://cds.linear.com/docs/en/packaging/05081610_G_SO8.pdf
footprint LT-S8-8_N (SOIC, 8-Leads, Body 4.9x3.9mm, Pitch 1.27mm, IPC Medium Density)
footprint LT-S8-8_L (SOIC, 8-Leads, Body 4.9x3.9mm, Pitch 1.27mm, IPC High Density)
footprint LT-S8-8_M (SOIC, 8-Leads, Body 4.9x3.9mm, Pitch 1.27mm, IPC Low Density)
pins: 1 FB (in) "The feedback pin is the inverting input of the error amplifier. The noninverting input of the error amplifier is internally connected to a 1.265V reference. The error amplifier will servo the drive to the output transistor, (See Datasheet)", 2 LATCH (in) "The LT1573 provides overcurrent protection with a timed latch-off circuit. The latch-off time out is triggered when the DRIVE pin is pulled below the saturation voltage of the drive transistor. The saturation voltage is a (See Datasheet)", 3 SHDN (in) "The SHDN pin has two functions. It can be used to turn off the output voltage by disabling the drive to the output transistor. It can also be used to reset the current limit latch. The shutdown/reset functions are activated (See Datasheet)", 4 GND (power) "Circuit Ground.", 5 DRIVE (out) "The DRIVE pin is connected to the collector of the main drive transistor of the LT1573. This drive transistor sinks the base current of the external PNP output transistor. A resistor is normally inserted between the base of (See Datasheet)", 6 VIN (power) "This pin provides power to all internal circuitry of the LT1573 including bias, start-up, thermal limit, error amplifier and all overcurrent latch circuitry.", 7 VOUT (power) "The VOUT pin is the input to comparator C1 shown in Block Diagram. This pin is normally connected to the output. The comparator C1 is used to disable the overcurrent latch during start-up when the output transistor is (See Datasheet)", 8 COMP "A compensation network is inserted between the VOUT and COMP pins to obtain optimal transient response. Under normal condition, the DC voltage of the COMP pin sits at one VBE above ground."

## LT1573CS8#TRPBF
designator U?
Fast Transient Response, Requires External Transistor, 2.8 to 10 V Vin, 1.27 to 6.8 V Vout, 8-pin SOIC (S8-8), 0 to 125 degC, Pb-Free, Tape and Reel; Manufacturer: Linear Technology; PartNumber: LT1573CS8#TRPBF; Discrete Pass Element: yes; Iout(mA): 5000; Isupply(mA): 1.7; Number of Outputs: 1; Output Voltage: Adj; Shutdown Current(uA): 200; Vin Max(V): 10; Vin Min(V): 2.8; Vout Max(V): 6.8; Vout Min(V): 1.27; DatasheetVersion: Rev. A; PackageVersion: Rev. G, 03/2012; PackageReference: S8-8; PackageDescription: 8-Pin Plastic Small Outline (Narrow .150 Inch), Body 4.9 x 3.9 mm, Pitch 1.27 mm; Supplier 1: Digi-Key; Supplier Part Number 1: LT1573CS8#TRPBF-ND; Supplier 2: Newark; Supplier Part Number 2: 57M4904; Packing: Tape and Reel; RoHS: TRUE; Mounting Technology: Surface Mount; ComponentLink1Description: Manufacturer URL; ComponentLink1URL: http://www.linear.com/; ComponentLink2Description: Datasheet; ComponentLink2URL: http://cds.linear.com/docs/en/datasheet/1573fa.pdf; ComponentLink3Description: Package Specification; ComponentLink3URL: http://cds.linear.com/docs/en/packaging/05081610_G_SO8.pdf
footprint LT-S8-8_N (SOIC, 8-Leads, Body 4.9x3.9mm, Pitch 1.27mm, IPC Medium Density)
footprint LT-S8-8_L (SOIC, 8-Leads, Body 4.9x3.9mm, Pitch 1.27mm, IPC High Density)
footprint LT-S8-8_M (SOIC, 8-Leads, Body 4.9x3.9mm, Pitch 1.27mm, IPC Low Density)
pins: 1 FB (in) "The feedback pin is the inverting input of the error amplifier. The noninverting input of the error amplifier is internally connected to a 1.265V reference. The error amplifier will servo the drive to the output transistor, (See Datasheet)", 2 LATCH (in) "The LT1573 provides overcurrent protection with a timed latch-off circuit. The latch-off time out is triggered when the DRIVE pin is pulled below the saturation voltage of the drive transistor. The saturation voltage is a (See Datasheet)", 3 SHDN (in) "The SHDN pin has two functions. It can be used to turn off the output voltage by disabling the drive to the output transistor. It can also be used to reset the current limit latch. The shutdown/reset functions are activated (See Datasheet)", 4 GND (power) "Circuit Ground.", 5 DRIVE (out) "The DRIVE pin is connected to the collector of the main drive transistor of the LT1573. This drive transistor sinks the base current of the external PNP output transistor. A resistor is normally inserted between the base of (See Datasheet)", 6 VIN (power) "This pin provides power to all internal circuitry of the LT1573 including bias, start-up, thermal limit, error amplifier and all overcurrent latch circuitry.", 7 VOUT (power) "The VOUT pin is the input to comparator C1 shown in Block Diagram. This pin is normally connected to the output. The comparator C1 is used to disable the overcurrent latch during start-up when the output transistor is (See Datasheet)", 8 COMP "A compensation network is inserted between the VOUT and COMP pins to obtain optimal transient response. Under normal condition, the DC voltage of the COMP pin sits at one VBE above ground."

## LT1573CS8-2.5
designator U?
Fast Transient Response, Requires External Transistor, 2.8 to 10 V Vin, 2.5 V Vout, 8-pin SOIC (S8-8), 0 to 125 degC; Manufacturer: Linear Technology; PartNumber: LT1573CS8-2.5; Discrete Pass Element: yes; Iout(mA): 5000; Isupply(mA): 1.7; Number of Outputs: 1; Output Voltage: 2.5 V; Shutdown Current(uA): 200; Vin Max(V): 10; Vin Min(V): 2.8; DatasheetVersion: Rev. A; PackageVersion: Rev. G, 03/2012; PackageReference: S8-8; PackageDescription: 8-Pin Plastic Small Outline (Narrow .150 Inch), Body 4.9 x 3.9 mm, Pitch 1.27 mm; Supplier 1: Digi-Key; Supplier Part Number 1: LT1573CS8-2.5-ND; RoHS: FALSE; Mounting Technology: Surface Mount; ComponentLink1Description: Manufacturer URL; ComponentLink1URL: http://www.linear.com/; ComponentLink2Description: Datasheet; ComponentLink2URL: http://cds.linear.com/docs/en/datasheet/1573fa.pdf; ComponentLink3Description: Package Specification; ComponentLink3URL: http://cds.linear.com/docs/en/packaging/05081610_G_SO8.pdf
footprint LT-S8-8_N (SOIC, 8-Leads, Body 4.9x3.9mm, Pitch 1.27mm, IPC Medium Density)
footprint LT-S8-8_L (SOIC, 8-Leads, Body 4.9x3.9mm, Pitch 1.27mm, IPC High Density)
footprint LT-S8-8_M (SOIC, 8-Leads, Body 4.9x3.9mm, Pitch 1.27mm, IPC Low Density)
pins: 1 FB (in) "The feedback pin is the inverting input of the error amplifier. The noninverting input of the error amplifier is internally connected to a 1.265V reference. The error amplifier will servo the drive to the output transistor, (See Datasheet)", 2 LATCH (in) "The LT1573 provides overcurrent protection with a timed latch-off circuit. The latch-off time out is triggered when the DRIVE pin is pulled below the saturation voltage of the drive transistor. The saturation voltage is a (See Datasheet)", 3 SHDN (in) "The SHDN pin has two functions. It can be used to turn off the output voltage by disabling the drive to the output transistor. It can also be used to reset the current limit latch. The shutdown/reset functions are activated (See Datasheet)", 4 GND (power) "Circuit Ground.", 5 DRIVE (out) "The DRIVE pin is connected to the collector of the main drive transistor of the LT1573. This drive transistor sinks the base current of the external PNP output transistor. A resistor is normally inserted between the base of (See Datasheet)", 6 VIN (power) "This pin provides power to all internal circuitry of the LT1573 including bias, start-up, thermal limit, error amplifier and all overcurrent latch circuitry.", 7 VOUT (power) "The VOUT pin is the input to comparator C1 shown in Block Diagram. This pin is normally connected to the output. The comparator C1 is used to disable the overcurrent latch during start-up when the output transistor is (See Datasheet)", 8 COMP "A compensation network is inserted between the VOUT and COMP pins to obtain optimal transient response. Under normal condition, the DC voltage of the COMP pin sits at one VBE above ground."